# Altium schematic symbol library NEC_Power_Interrupter.SchLib: 20 symbols
Pins are listed as number, name and electrical type; pins without a type are passive.

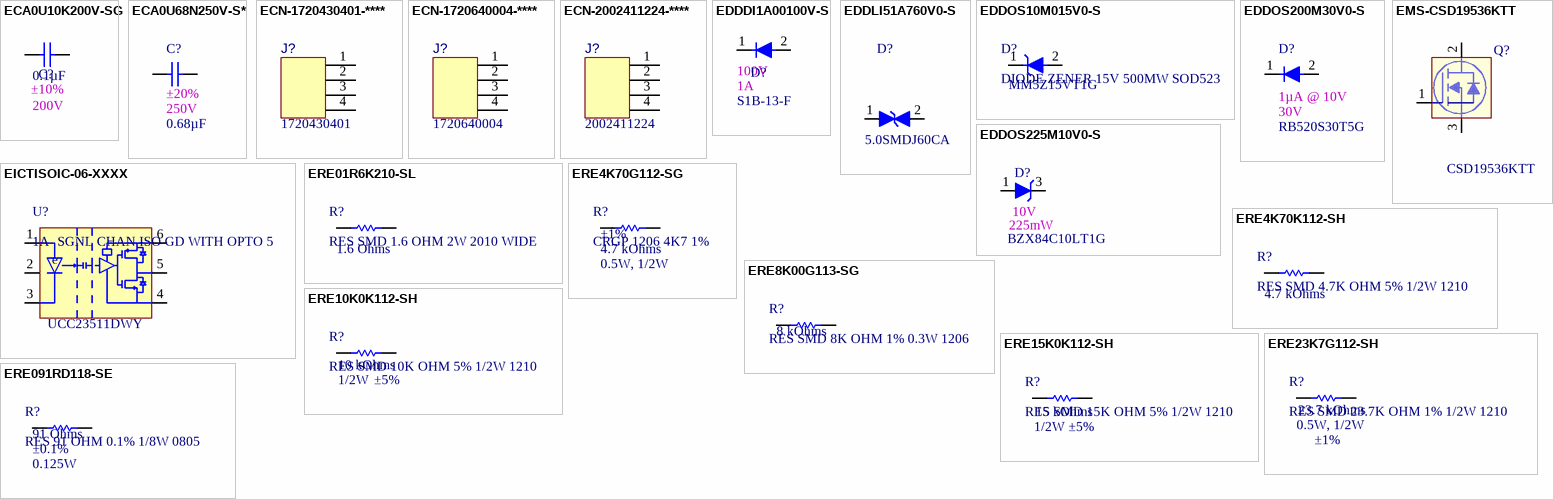
[diagram p0: symbols ECA0U10K200V-SG to ERE091RD118-SE]

## ECA0U10K200V-SG
designator C?, comment value 0.1µF  1st Auxiliary Field: 200V  2nd Auxiliary Field: ±10%  (hidden comment: CAP CER 0.1UF 200V X7R 1206)
Manufacturer: Würth Elektronik; Manufacturer Part Number: 885342208002; Internal Part Number: ECA0U10L200V-SG; Vendor Part Number: 732-12081-1-ND; Component Height (mm): 1.80mm; 3rd Auxiliary Field: ROHS3 Compliant; Temp Co: -55°C ~ 125°C; Vendor Name: Digi-Key; Part Type: CAP CER 0.1UF 200V X7R 1206; 4th Auxiliary Field: *
footprint SMDC1206
pins: 1, 2

## ECA0U68N250V-S*
designator C?, comment value 0.68µF  2nd Auxiliary Field: ±20%  1st Auxiliary Field: 250V  (hidden comment: CAP CER 0.68UF 250V X7T 1812)
Manufacturer: TDK Corporation; Vendor Part Number: 445-13455-1-ND; Manufacturer Part Number: C4532X7T2E684M160KA; Internal Part Number: ECA0U68N250V-S*; Vendor Name: Digi-Key; 3rd Auxiliary Field: ROHS3 Compliant; Component Height (mm): 1.80mm; Temp Co: -55°C ~ 125°C; Part Type: CAP CER 0.68UF 250V X7T 1812; 4th Auxiliary Field: *
footprint SMDC1812 (Footprint not found)
pins: 1, 2

## ECN-1720430401-****
designator J?, comment value 1720430401  (hidden comment: CONN HDR 4POS 7.50MM R/A SLDR)
Manufacturer: Molex; Internal Part Number: ECN-1720430401-****; Vendor Part Number: WM20741-ND; 3rd Auxiliary Field: RoHS Compliant; Component Height (mm): 11.53mm; Vendor Name: Digi-Key; Manufacturer Part Number: 1720430401; Part Type: CONN HDR 4POS 7.50MM R/A SLDR; Temp Co: *; 4th Auxiliary Field: *; 1st Auxiliary Field: 4POS; 2nd Auxiliary Field: 7.50MM
footprint MOLEX_1720430401 (Footprint not found)
pins: 1, 2, 3, 4

## ECN-1720640004-****
designator J?, comment value 1720640004  (hidden comment: CONN HEADER R/A 4POS 5.7MM)
Manufacturer: Molex; Internal Part Number: ECN-1720640004-****; Vendor Part Number: WM10392-ND; 3rd Auxiliary Field: RoHS Compliant; Component Height (mm): 16.78mm; Vendor Name: Digi-Key; 2nd Auxiliary Field: 5.70mm; Manufacturer Part Number: 1720640004; Part Type: CONN HEADER R/A 4POS 5.7MM; Temp Co: *; 4th Auxiliary Field: *; 1st Auxiliary Field: 4POS
footprint MOLEX_1720640004 (CONN HEADER R/A 4POS 5.7MM)
pins: 1, 2, 3, 4

## ECN-2002411224-****
designator J?, comment value 2002411224  (hidden comment: CONN HEADER R/A 4POS 5.7MM)
Manufacturer: Molex; Internal Part Number: ECN-2002411224-****; Vendor Part Number: 900-2002411224-ND; 3rd Auxiliary Field: RoHS Compliant; Component Height (mm): 11.10mm; Vendor Name: Digi-Key; Manufacturer Part Number: 2002411224; Part Type: CONN HEADER R/A 4POS 5.7MM; Temp Co: *; 4th Auxiliary Field: *; 1st Auxiliary Field: 4POS; 2nd Auxiliary Field: 5.7MM
footprint MOLEX_2002411224 (Footprint not found)
pins: 1, 2, 3, 4

## EDDDI1A00100V-S
designator D?, comment value S1B-13-F  1st Auxiliary Field: 100V  2nd Auxiliary Field: 1A  (hidden comment: DIODE GEN PURP 100V 1A SMA)
Manufacturer: Diodes Incorporated; Internal Part Number: EDDDI1A00100V-S; Vendor Part Number: S1B-FDICT-ND; 3rd Auxiliary Field: ROHS3 Compliant; Temp Co: -65°C ~ 150°C; Vendor Name: Digi-Key; Component Height (mm): 2.5mm; Manufacturer Part Number: S1B-13-F; Part Type: DIODE GEN PURP 100V 1A SMA; 4th Auxiliary Field: *
footprint DIOM4326X24N (Molded Diode, 2-Leads, Body 4.30x2.60mm, IPC Medium Density)
pins: 1, 2

## EDDLI51A760V0-S
designator D?, comment value 5.0SMDJ60CA  (hidden comment: TVS DIODE 60V 96.8V DO214AB)
Manufacturer: Littelfuse Inc.; Vendor Part Number: F10858CT-ND; Internal Part Number: EDDLI51A760V0-S; Vendor Name: Digi-Key; 3rd Auxiliary Field: ROHS3 Compliant; Component Height (mm): 2.62mm; Temp Co: -65°C ~ 150°C (TJ); 2nd Auxiliary Field: 51.7A; Part Type: TVS DIODE 60V 96.8V DO214AB; Manufacturer Part Number: 5.0SMDJ60CA; 4th Auxiliary Field: *; 1st Auxiliary Field: 60V
footprint DIOM6959X262N-BI (Molded Diode, 2-Leads, Body 6.86x5.91mm, IPC Medium Density)
pins: 1, 2

## EDDOS10M015V0-S
designator D?, comment DIODE ZENER 15V 500MW SOD523  value MM5Z15VT1G
Internal Part Number: EDDOS10M015V0-S; Manufacturer Name: ON Semiconductor; Vendor Part Number: MM5Z15VT1GOSCT-ND; 2nd Auxiliary field: 10mA; 3rd Auxiliary field: ROHS3 Compliant; Component Height (mm): 0.7mm; Temp Co: -65°C ~ 150°C; Vendor Name: Digi-Key; 1st Auxiliary field: 15V; 4th Auxiliary field: *; Manufacturer Part Number: MM5Z15VT1G; Part  Type: DIODE ZENER 15V 500MW SOD523
footprint SODFL160X70-2N (SODFL, 2-Leads, Body 0.80x1.60mm, IPC Medium Density)
pins: 1 K, 2 A

## EDDOS200M30V0-S
designator D?, comment value RB520S30T5G  2nd Auxiliary Field: 1µA @ 10V  1st Auxiliary Field: 30V  (hidden comment: DIODE SCHOTTKY 30V 200MA SOD523)
Manufacturer: ON Semiconductor; Vendor Part Number: RB520S30T5GOSCT-ND; Internal Part Number: EDDOS200M30V0-S; 3rd Auxiliary Field: RoHS Compliant; Vendor Name: Digi-Key; Component Height (mm): 0.7mm; Temp Co: -55°C ~ 150°C; Part Type: DIODE SCHOTTKY 30V 200MA SOD523; Manufacturer Part Number: RB520S30T5G; 4th Auxiliary Field: *
footprint SODFL160X70-2N (SODFL, 2-Leads, Body 0.80x1.60mm, IPC Medium Density)
pins: 1 K, 2 A

## EDDOS225M10V0-S
designator D?, comment value BZX84C10LT1G  1st Auxiliary Field: 10V  2nd Auxiliary Field: 225mW  (hidden comment: DIODE ZENER 10V 225MW SOT23-3)
Manufacturer: ON Semiconductor; Internal Part Number: EDDOS225M10V0-S; Vendor Part Number: BZX84C10LT1GOSCT-ND; 3rd Auxiliary Field: ROHS3 Compliant; Temp Co: -65°C ~ 150°C (TJ); Vendor Name: Digi-Key; Component Height (mm): 1.11mm; Manufacturer Part Number: BZX84C10LT1G; Part Type: DIODE ZENER 10V 225MW SOT23-3; 4th Auxiliary Field: *
footprint SOT95P237X111-3N (SOT23, 3-Leads, Body 2.92x2.37mm, Pitch 0.95mm, IPC Medium Density)
pins: 1 ANODE, 3 CATHODE

## EICTISOIC-06-XXXX
designator U?, comment 1A- SGNL CHAN ISO GD WITH OPTO 5  value UCC23511DWY
Internal Part Number: EICTISOIC-06-XXXX; Manufacturer Name: Texas Instruments; Vendor Part Number: 296-UCC23511DWY-ND; 1st Auxiliary field: 14V ~ 33V; 2nd Auxiliary field: 1.5A, 2A; 3rd Auxiliary field: ROHS3 Compliant; Component Height (mm): 3.55mm; Temp Co: -40°C ~ 125°C; Vendor Name: Digi-Key; 4th Auxiliary field: *; Manufacturer Part Number: UCC23511DWY; Part  Type: 1A- SGNL CHAN ISO GD WITH OPTO 5
footprint SOIC127P1150X355-6N (SOIC, 6-Leads, Body 4.68x7.50mm, Pitch 1.27mm, IPC Medium Density)
pins: 1 Anode, 2 NC, 3 Cathode, 4 VEE, 5 Vout, 6 VCC
text: e

## EMS-CSD19536KTT
designator Q?, comment value CSD19536KTT  (hidden comment: MOSFET N-CH 100V 200A TO263)
Manufacturer: Texas Instruments; Internal Part Number: EMS-CSD19536KTT; Vendor Part Number: 296-47254-1-ND; 2nd Auxiliary Field: 200A (Ta); 3rd Auxiliary Field: ROHS3 Compliant; Component Height (mm): 4.7mm; Temp Co: -55°C ~ 175°C (TJ); Vendor Name: Digi-Key; 1st Auxiliary Field: 100V; Part Type: MOSFET N-CH 100V 200A TO263; 4th Auxiliary Field: *; Manufacturer Part Number: CSD19536KTT
footprint DPAK254P1525X483-3N (D2-PAK, 3-Pads, Body 7.61x8.44mm (max), IPC Medium Density)
pins: 1 G, 2 D, 3 S

## ERE01R6K210-SL
designator R?, comment RES SMD 1.6 OHM 2W 2010 WIDE  value 1.6 Ohms
Internal Part Number: ERE01R6K210-SL; Manufacturer Name: Panasonic Electronic Components; Manufacturer Part Number: ERJ-B1BJ1R6U; Vendor Part Number: ERJ-B1BJ1R6U-ND; 2nd Auxiliary field: ±5%; 3rd Auxiliary field: ROHS3 Compliant; Component Height (mm): 0.75mm; Temp Co: -55°C ~ 155°C; Vendor Name: Digi-Key; 1st Auxiliary field: 2W; 4th Auxiliary field: *; Part  Type: RES SMD 1.6 OHM 2W 2010 WIDE
footprint SMDR1020 (Chip Resistor, 2-Leads, Body 2.50x5.00mm, IPC Medium Density)
pins: 1, 2

## ERE4K70G112-SG
designator R?, comment CRGP 1206 4K7 1%  value 4.7 kOhms  1st Auxiliary field: 0.5W, 1/2W  2nd Auxiliary field: ±1%
Internal Part Number: ERE4K70G112-SG; Manufacturer Name: TE Connectivity Passive Product; Manufacturer Part Number: CRGP1206F4K7; Vendor Part Number: A130546CT-ND; 3rd Auxiliary field: RoHS Compliant; Component Height (mm): 0.65mm; Temp Co: -55°C ~ 155°C; Vendor Name: Digi-Key; 4th Auxiliary field: *; Part  Type: CRGP 1206 4K7 1%
footprint SMDR1206 (Footprint not found)
pins: 1, 2

## ERE4K70K112-SH
designator R?, comment RES SMD 4.7K OHM 5% 1/2W 1210  value 4.7 kOhms
Internal Part Number: ERE4K70K112-SH; Manufacturer Name: Panasonic Electronic Components; Manufacturer Part Number: ERJ-14YJ472U; Vendor Part Number: P4.7KVCT-ND; 3rd Auxiliary field: ROHS3 Compliant; Component Height (mm): 0.7mm; Temp Co: -55°C ~ 155°C; Vendor Name: Digi-Key; 1st Auxiliary field: 1/2W; 2nd Auxiliary field: ±5%; 4th Auxiliary field: *; Part  Type: RES SMD 4.7K OHM 5% 1/2W 1210
footprint SMDR1210 (Footprint not found)
pins: 1, 2

## ERE8K00G113-SG
designator R?, comment RES SMD 8K OHM 1% 0.3W 1206  value 8 kOhms
Internal Part Number: ERE8K00G113-SG; Manufacturer Name: Vishay Foil Resistors (Division of Vishay Precision Group); Manufacturer Part Number: Y16258K00000F9W; Vendor Part Number: Y16258K00000F9W-ND; 3rd Auxiliary field: ROHS3 Compliant; Component Height (mm): 0.64mm; Temp Co: -55°C ~ 150°C; Vendor Name: Digi-Key; 1st Auxiliary field: 0.3W; 2nd Auxiliary field: ±1%; 4th Auxiliary field: *; Part  Type: RES SMD 8K OHM 1% 0.3W 1206
footprint SMDR1206 (Footprint not found)
pins: 1, 2

## ERE10K0K112-SH
designator R?, comment RES SMD 10K OHM 5% 1/2W 1210  value 10 kOhms  1st Auxiliary field: 1/2W  2nd Auxiliary field: ±5%
Internal Part Number: ERE10K0K112-SH; Manufacturer Name: Panasonic Electronic Components; Manufacturer Part Number: ERJ-14YJ103U; Vendor Part Number: P10KVCT-ND; 3rd Auxiliary field: ROHS3 Compliant; Component Height (mm): 0.7mm; Temp Co: -55°C ~ 155°C; Vendor Name: Digi-Key; 4th Auxiliary field: *; Part  Type: RES SMD 10K OHM 5% 1/2W 1210
footprint SMDR1210 (Footprint not found)
pins: 1, 2

## ERE15K0K112-SH
designator R?, comment RES SMD 15K OHM 5% 1/2W 1210  value 15 kOhms  1st Auxiliary field: 1/2W  2nd Auxiliary field: ±5%
Internal Part Number: ERE15K0K112-SH; Manufacturer Name: Panasonic Electronic Components; Manufacturer Part Number: ERJ-14YJ153U; Vendor Part Number: P15KVCT-ND; 3rd Auxiliary field: ROHS3 Compliant; Component Height (mm): 0.7mm; Temp Co: -55°C ~ 155°C; Vendor Name: Digi-Key; 4th Auxiliary field: *; Part  Type: RES SMD 15K OHM 5% 1/2W 1210
footprint SMDR1210 (Footprint not found)
pins: 1, 2

## ERE23K7G112-SH
designator R?, comment RES SMD 23.7K OHM 1% 1/2W 1210  value 23.7 kOhms  1st Auxiliary field: 0.5W, 1/2W  2nd Auxiliary field: ±1%
Internal Part Number: ERE23K7G112-SH; Manufacturer Name: Panasonic Electronic Components; Manufacturer Part Number: ERJ-14NF2372U; Vendor Part Number: P23.7KAACT-ND; 3rd Auxiliary field: ROHS3 Compliant; Component Height (mm): 0.70mm; Temp Co: -55°C ~ 155°C; Vendor Name: Digi-Key; Part  Type: RES SMD 23.7K OHM 1% 1/2W 1210
footprint SMDR1210 (Footprint not found)
pins: 1, 2

## ERE091RD118-SE
designator R?, comment RES 91 OHM 0.1% 1/8W 0805  value 91 Ohms  1st Auxiliary field: 0.125W  2nd Auxiliary field: ±0.1%
Internal Part Number: ERE091RD118-SE; Manufacturer Name: Panasonic Electronic Components; Manufacturer Part Number: ERA-6AEB910V; Vendor Part Number: P91DACT-ND; 3rd Auxiliary field: ROHS3 Compliant; Component Height (mm): 0.60mm; Temp Co: -55°C ~ 155°C; Vendor Name: Digi-Key; Part  Type: RES 91 OHM 0.1% 1/8W 0805
footprint SMDR0805 (Footprint not found)
pins: 1, 2